# EAGLE library part SD250-4L (library SD250-4L)
Base/Gate Driver Transformers. Lower cost than toroidal equivalents Frequency range of 10 250 kHz and up Industry standard pin centers 3750 Vrms, one minute isolation (hipot) between primary and secondary windings; 1500 Vrms, one minute between secondaries UL1446 Class B (130C) Insulation System (UL File E83628) Source: Datasheet <https://www.coilcraft.com/pdfs/pwrbase.pdf>
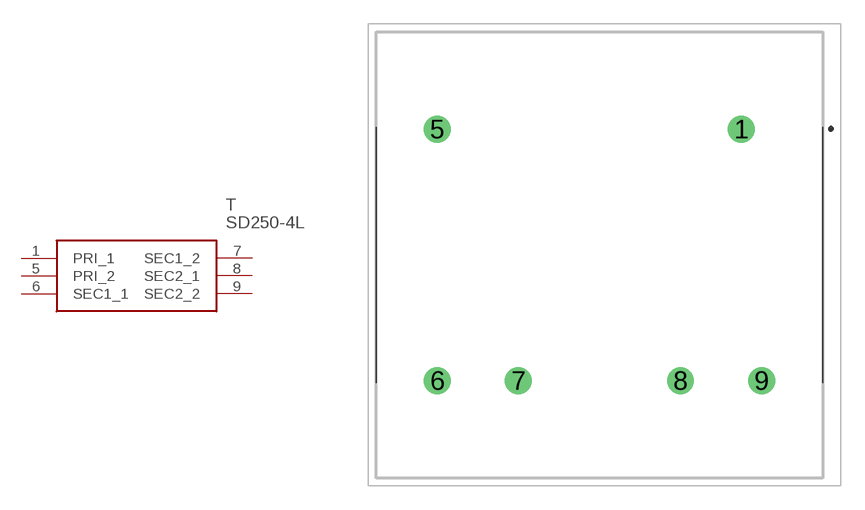
[diagram p0: symbol with the pads of SD2504L; footprint SD2504L]

Designator prefix T

## SD250-4L (Description: Base/Gate Driver Transformers. Lower cost than toroidal equivalents Frequency range of 10 250 kHz and up Industry standard pin centers 3750 Vrms, one minute isolation (hipot) between primary and secondary windings; 1500 Vrms, one minute between secondaries UL1446 Class B (130C) Insulation System (UL File E83628); Height: 24.13mm; Manufacturer_Name: COILCRAFT; Manufacturer_Part_Number: SD250-4L)  [SD2504L]
1  PRI_1
5  PRI_2
6  SEC1_1
7  SEC1_2
8  SEC2_1
9  SEC2_2

## Footprint SD2504L (pad centres in mm)
SD250-4L-1
drill 1.12 pad 1.68: 1 0,0; 5 -19.05,0; 6 -19.05,-15.75; 7 -13.97,-15.75; 8 -3.81,-15.75; 9 1.27,-15.75